# Altium footprint library speaker.PCBLIB: 1 footprints
Each footprint in its own frame and in the unit in brackets; x right, y up, seen from the top. Pads: shape width x height; smd on the part's side, far side on the other; paste and mask are expansions set on the pad; w line width, h text height; cw(c..) or ccw(c..) is an arc to the next point about the centre after c.
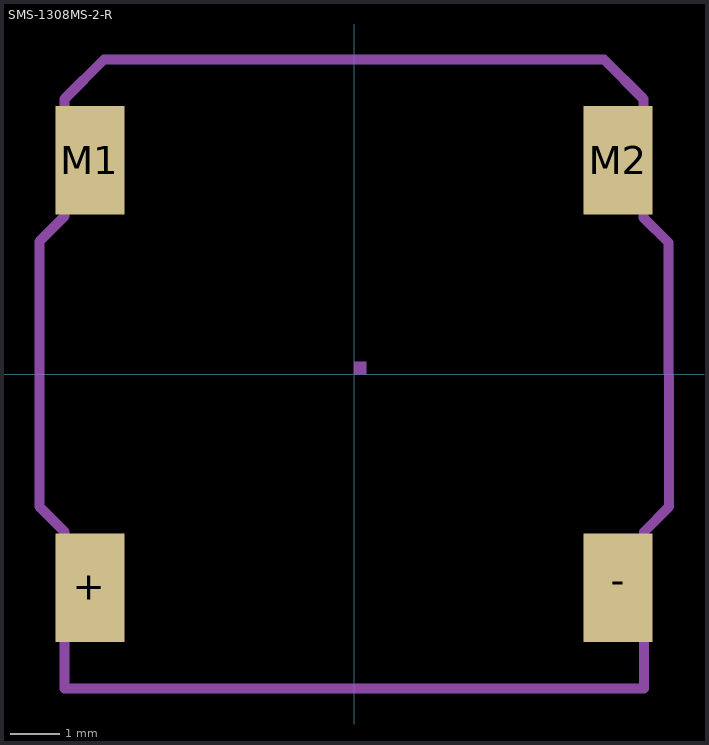
[diagram p0: the footprint, top view; thin cyan lines are the x and y axes]

## SMS-1308MS-2-R [mm]
pads (4):
  rect 1.4x2.2 smd: +(-5.375,-4.35) -(5.375,-4.35) M1(-5.375,4.35) M2(5.375,4.35)
Mechanical 2:
  region: 0,0 0.254,0 0.254,0.254 0,0.254
  region: 0,0 0.254,0 0.254,0.254 0,0.254
  region: 0,0 0.254,0 0.254,0.254 0,0.254
  region: 0,0 0.254,0 0.254,0.254 0,0.254
  lines w0.203: -6.4,-2.7 -6.4,2.7 ; -5.887,-6.4 5.9,-6.4 ; -5.088,6.4 5.088,6.4 ; 6.4,2.675 6.412,-2.7
Mechanical 18:
  lines w0.203: -6.4,-2.7 -5.887,-3.213 -5.887,-6.4 ; -6.4,2.7 -5.887,3.213 -5.887,5.6 -5.088,6.4 ; 5.088,6.4 5.887,5.6 5.887,3.187 6.4,2.675 ; 5.9,-6.4 5.9,-3.213 6.412,-2.7